# Altium footprint library pathfinder_pcb.PcbLib: 35 footprints (part 1 of 3)
Each footprint in its own frame and in the unit in brackets; x right, y up, seen from the top. Pads: shape width x height; smd on the part's side, far side on the other; paste and mask are expansions set on the pad; w line width, h text height; cw(c..) or ccw(c..) is an arc to the next point about the centre after c.
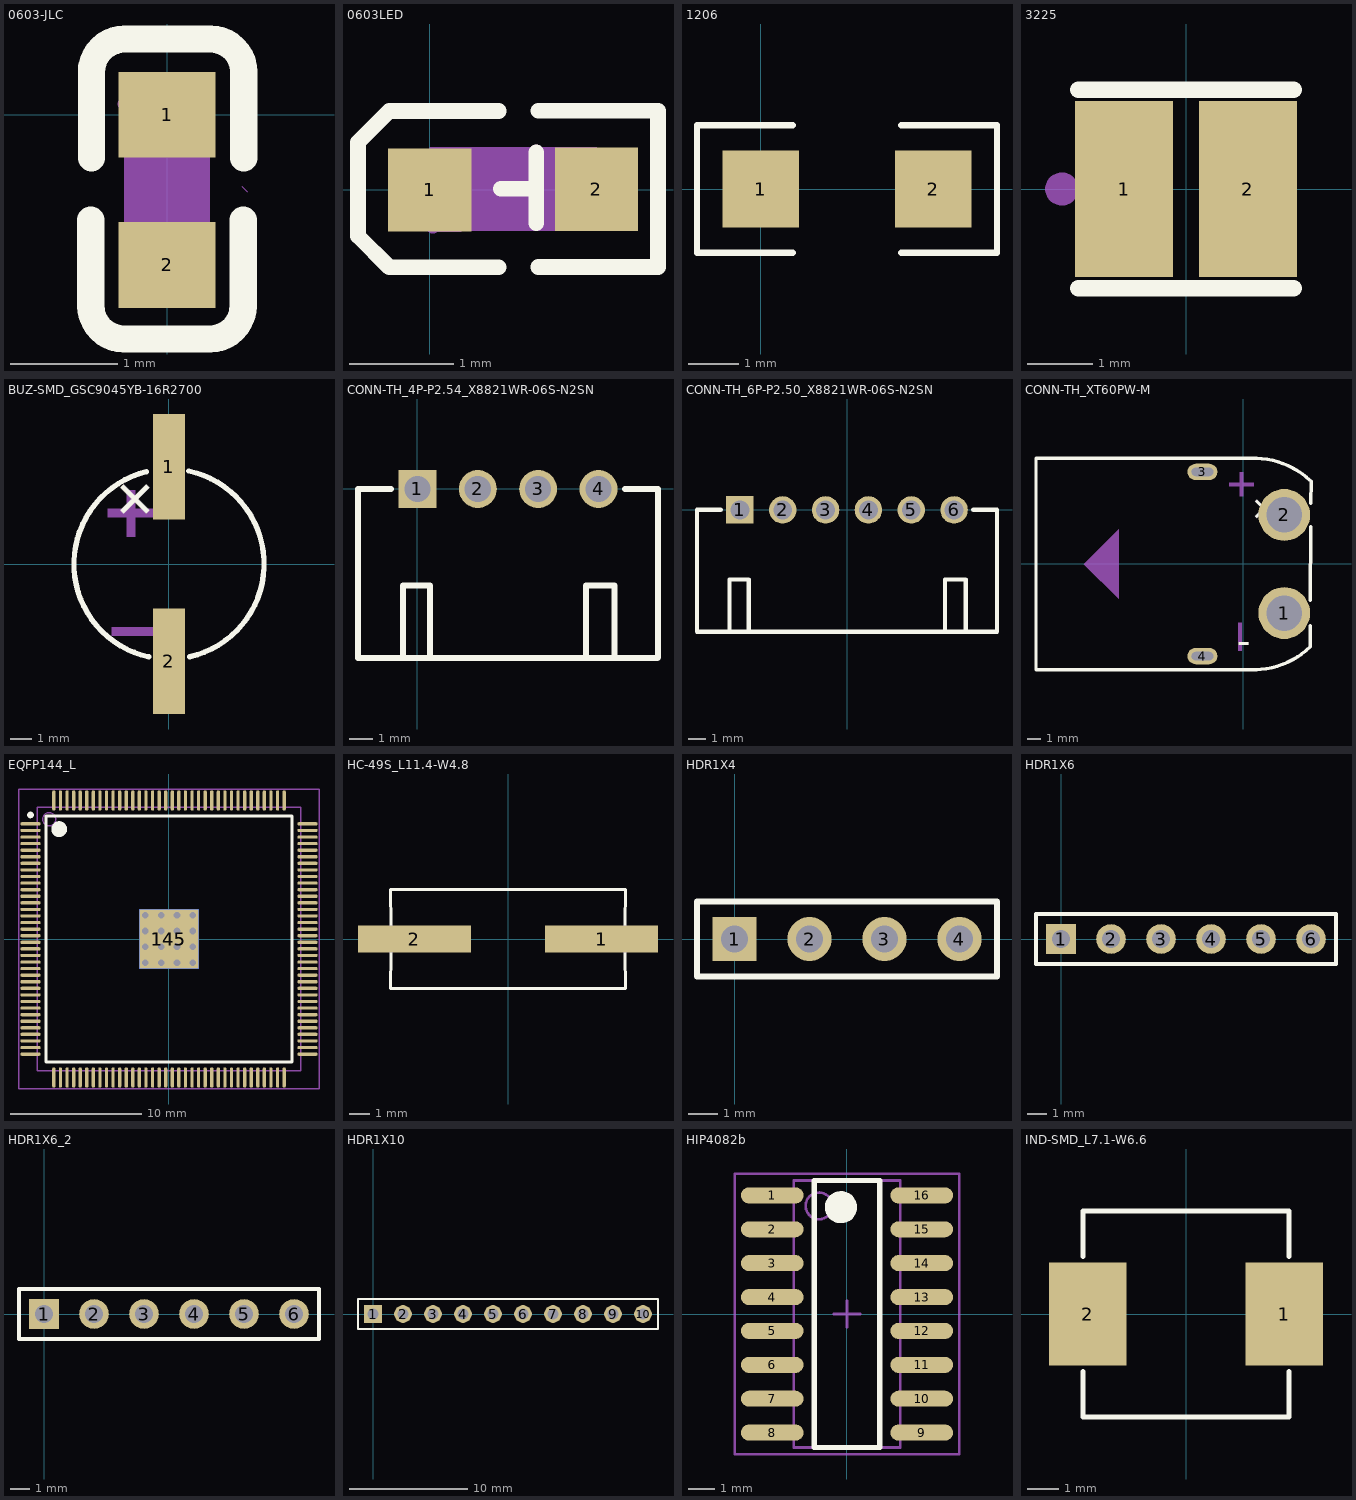
[diagram p0: the footprints below, top view; thin cyan lines are the x and y axes]

## 0603-JLC [mm]
pads (2):
  rect 0.9x0.8 smd: 1(0,0) 2(0,-1.4)
Top Overlay:
  lines w0.254: -0.71,-0.98 -0.71,-1.78 ccw(c-0.4,-1.78) -0.4,-2.09 0.4,-2.09 ccw(c0.4,-1.78) 0.71,-1.78 0.71,-0.98 ; -0.704,-0.404 -0.704,0.396 cw(c-0.394,0.396) -0.394,0.706 0.406,0.706 cw(c0.406,0.396) 0.715,0.396 0.715,-0.404
Top Paste:
  region: -0.138,-0.385 0.138,-0.385 0.432,0.018 0.432,0.314 0.368,0.378 -0.368,0.378 -0.432,0.314 -0.432,0.018
  region: -0.138,-1.015 0.138,-1.015 0.432,-1.418 0.432,-1.714 0.368,-1.778 -0.368,-1.778 -0.432,-1.714 -0.432,-1.418
Mechanical 4:
  region: -0.4,0.1 0.4,0.1 0.4,-1.5 -0.4,-1.5
Mechanical 5:
  region: -0.4,-1.5 0.4,-1.5 0.4,-1.2 -0.4,-1.2
  region: -0.4,0.1 0.4,0.1 0.4,-0.2 -0.4,-0.2
Mechanical 6:
  circle w0.06: c-0.4,0.1 r0.03
Mechanical 15:
  lines w0.003: 0.696,-0.667 0.747,-0.718

## 0603LED [mm]
pads (2):
  rect 0.8x0.8 smd: 1(0,0) 2(1.599,0.007)
Top Overlay:
  lines w0.15: 0.66,-0.742 -0.39,-0.742 -0.69,-0.442 -0.69,-0.342 -0.69,0.358 -0.69,0.458 -0.39,0.758 0.66,0.758 ; 0.68,0.01 1.02,0.01 ; 1.02,-0.32 1.02,0.36 ; 1.04,-0.74 2.19,-0.74 ; 1.04,0.76 2.19,0.76 2.19,-0.72
Mechanical 4:
  region: 0,-0.39 0,0.41 1.6,0.41 1.6,-0.39
Mechanical 5:
  region: 0,-0.4 0,0.4 0.3,0.4 0.3,-0.4
  region: 1.3,-0.393 1.3,0.407 1.6,0.407 1.6,-0.393
Mechanical 6:
  circle w0.06: c0.029,-0.36 r0.03
Mechanical 15:
  region: -0.271,0.065 0.269,0.065 0.269,-0.065 -0.271,-0.065
  region: 1.534,-0.264 1.534,0.276 1.664,0.276 1.664,-0.264
  region: 1.328,0.072 1.868,0.072 1.868,-0.058 1.328,-0.058
  lines w0.15: 0.679,0.013 1.019,0.013 ; 1.02,-0.32 1.02,0.36

## 1206 [mil]
height 62.99
pads (2):
  rect 60x60 smd: 1(0,0) 2(135,0)
Top Overlay:
  lines w5: 25,-50 -50,-50 -50,50 25,50 ; 110,-50 185,-50 185,50 110,50

## 3225 [mm]
pads (2):
  rect 1.5x2.7 smd: 1(-0.95,0) 2(0.95,0)
Top Overlay:
  lines w0.254: -1.651,-1.524 1.651,-1.524 ; -1.651,1.524 1.651,1.524
Mechanical 15:
  circle w0.254: c-1.905,0 r0.127

## BUZ-SMD_GSC9045YB-16R2700 [mm]
pads (2):
  rect 1.5x5 smd: 1(0,4.6) 2(0,-4.6)
Top Overlay:
  lines w0.254: -1.066,4.372 ccw(c0,0) -0.951,-4.398 ; 0.936,4.402 cw(c0,0) 0.974,-4.393
  text "+" at -1.822,1.626 h2.03
Mechanical 15:
  region: -2.901,2.207 -2.901,2.607 -0.701,2.607 -0.701,2.207
  region: -1.607,1.299 -2.007,1.299 -2.007,3.499 -1.607,3.499
  region: -2.701,-3.393 -2.701,-2.993 -0.501,-2.993 -0.501,-3.393

## CONN-TH_4P-P2.54_X8821WR-06S-N2SN [mm]
pads (4):
  rect 1.6x1.6 hole 1.1: 1(0,0)
  round 1.6 hole 1.1: 2(2.54,0) 3(5.08,0) 4(7.62,0)
Top Overlay:
  lines w0.254: -1.116,0 -2.5,0 -2.5,-7.112 -0.608,-7.112 ; 0.522,-7.112 0.522,-4.064 -0.608,-4.064 -0.608,-7.112 ; 7.088,-7.112 7.088,-4.064 8.294,-4.064 8.294,-7.112 ; 8.739,0 10.123,0 10.123,-6.629 10.123,-7.098 10.109,-7.112 -0.608,-7.112

## CONN-TH_6P-P2.50_X8821WR-06S-N2SN [mm]
pads (6):
  rect 1.6x1.6 hole 1.1: 1(-6.25,0)
  round 1.6 hole 1.1: 2(-3.75,0) 3(-1.25,0) 4(1.25,0) 5(3.75,0) 6(6.25,0)
Top Overlay:
  lines w0.254: -7.366,0 -8.75,0 -8.75,-7.112 8.75,-7.112 8.75,0 7.366,0 ; -6.858,-7.112 -6.858,-4.064 -5.728,-4.064 -5.728,-7.112 ; 5.715,-7.112 5.715,-4.064 6.921,-4.064 6.921,-7.112

## CONN-TH_XT60PW-M [mm]
pads (4):
  round 3.8 hole 2.6: 1(3,-3.6) 2(3,3.6)
  oval 2.2x1.2 hole 0.6 slot 1.6 at 0 deg: 3(-3,6.75) 4(-3,-6.75)
Top Overlay:
  lines w0.254: 0.889,-7.747 ccw(c0.746,-1.749) 4.917,-6.062 ; 0.937,7.747 cw(c0.794,1.749) 4.965,6.062 4.956,4.441 ; 1,-7.75 -15.2,-7.75 -15.2,7.75 1,7.75 ; 4.902,-5.994 4.909,-4.544 ; 4.919,-2.676 4.947,2.738
  text "-" at 0.556,-5.08 h2.03
  text "+" at 0.092,4.235 h2.03
Mechanical 15:
  region: -9.144,2.54 -9.144,-2.54 -11.684,0
  region: -0.254,6.731 0,6.731 0,5.969 0.762,5.969 0.762,5.715 0,5.715 0,4.953 -0.254,4.953 -0.254,5.715 -1.016,5.715 -1.016,5.969 -0.254,5.969
  region: -0.381,-4.318 -0.127,-4.318 -0.127,-6.35 -0.381,-6.35

## EQFP144_L [mm] "Thin QFP, 144-Leads, Body 20x20mm, Pitch 0.5mm, IPC High Density"
height 1.6
pads (146):
  oval 1.55x0.25 smd: 1(-10.525,8.75) 2(-10.525,8.25) 3(-10.525,7.75) 4(-10.525,7.25) 5(-10.525,6.75) 6(-10.525,6.25) 7(-10.525,5.75) 8(-10.525,5.25) 9(-10.525,4.75) 10(-10.525,4.25) 11(-10.525,3.75) 12(-10.525,3.25) 13(-10.525,2.75) 14(-10.525,2.25) 15(-10.525,1.75) 16(-10.525,1.25) 17(-10.525,0.75) 18(-10.525,0.25) 19(-10.525,-0.25) 20(-10.525,-0.75) 21(-10.525,-1.25) 22(-10.525,-1.75) 23(-10.525,-2.25) 24(-10.525,-2.75) 25(-10.525,-3.25) 26(-10.525,-3.75) 27(-10.525,-4.25) 28(-10.525,-4.75) 29(-10.525,-5.25) 30(-10.525,-5.75) 31(-10.525,-6.25) 32(-10.525,-6.75) 33(-10.525,-7.25) 34(-10.525,-7.75) 35(-10.525,-8.25) 36(-10.525,-8.75) 73(10.525,-8.75) 74(10.525,-8.25) 75(10.525,-7.75) 76(10.525,-7.25) 77(10.525,-6.75) 78(10.525,-6.25) 79(10.525,-5.75) 80(10.525,-5.25) 81(10.525,-4.75) 82(10.525,-4.25) 83(10.525,-3.75) 84(10.525,-3.25) 85(10.525,-2.75) 86(10.525,-2.25) 87(10.525,-1.75) 88(10.525,-1.25) 89(10.525,-0.75) 90(10.525,-0.25) 91(10.525,0.25) 92(10.525,0.75) 93(10.525,1.25) 94(10.525,1.75) 95(10.525,2.25) 96(10.525,2.75) 97(10.525,3.25) 98(10.525,3.75) 99(10.525,4.25) 100(10.525,4.75) 101(10.525,5.25) 102(10.525,5.75) 103(10.525,6.25) 104(10.525,6.75) 105(10.525,7.25) 106(10.525,7.75) 107(10.525,8.25) 108(10.525,8.75)
  oval 0.25x1.55 smd: 37(-8.75,-10.525) 38(-8.25,-10.525) 39(-7.75,-10.525) 40(-7.25,-10.525) 41(-6.75,-10.525) 42(-6.25,-10.525) 43(-5.75,-10.525) 44(-5.25,-10.525) 45(-4.75,-10.525) 46(-4.25,-10.525) 47(-3.75,-10.525) 48(-3.25,-10.525) 49(-2.75,-10.525) 50(-2.25,-10.525) 51(-1.75,-10.525) 52(-1.25,-10.525) 53(-0.75,-10.525) 54(-0.25,-10.525) 55(0.25,-10.525) 56(0.75,-10.525) 57(1.25,-10.525) 58(1.75,-10.525) 59(2.25,-10.525) 60(2.75,-10.525) 61(3.25,-10.525) 62(3.75,-10.525) 63(4.25,-10.525) 64(4.75,-10.525) 65(5.25,-10.525) 66(5.75,-10.525) 67(6.25,-10.525) 68(6.75,-10.525) 69(7.25,-10.525) 70(7.75,-10.525) 71(8.25,-10.525) 72(8.75,-10.525) 109(8.75,10.525) 110(8.25,10.525) 111(7.75,10.525) 112(7.25,10.525) 113(6.75,10.525) 114(6.25,10.525) 115(5.75,10.525) 116(5.25,10.525) 117(4.75,10.525) 118(4.25,10.525) 119(3.75,10.525) 120(3.25,10.525) 121(2.75,10.525) 122(2.25,10.525) 123(1.75,10.525) 124(1.25,10.525) 125(0.75,10.525) 126(0.25,10.525) 127(-0.25,10.525) 128(-0.75,10.525) 129(-1.25,10.525) 130(-1.75,10.525) 131(-2.25,10.525) 132(-2.75,10.525) 133(-3.25,10.525) 134(-3.75,10.525) 135(-4.25,10.525) 136(-4.75,10.525) 137(-5.25,10.525) 138(-5.75,10.525) 139(-6.25,10.525) 140(-6.75,10.525) 141(-7.25,10.525) 142(-7.75,10.525) 143(-8.25,10.525) 144(-8.75,10.525)
  rect 4.5x4.5 smd: 145(0,0)
  rect 4.5x4.5 smd far side: 145(0,0)
via -1.79,-1.79 diameter 0.8 hole 0.5
via -1.79,-0.59 diameter 0.8 hole 0.5
via -0.59,-1.79 diameter 0.8 hole 0.5
via 0.61,-1.79 diameter 0.8 hole 0.5
via -0.59,-0.59 diameter 0.8 hole 0.5
via 0.61,-0.59 diameter 0.8 hole 0.5
via 1.81,-1.79 diameter 0.8 hole 0.5
via 1.81,-0.59 diameter 0.8 hole 0.5
via -1.79,0.61 diameter 0.8 hole 0.5
via -0.59,0.61 diameter 0.8 hole 0.5
via -1.79,1.81 diameter 0.8 hole 0.5
via -0.59,1.81 diameter 0.8 hole 0.5
via 0.61,0.61 diameter 0.8 hole 0.5
via 1.81,0.61 diameter 0.8 hole 0.5
via 0.61,1.81 diameter 0.8 hole 0.5
via 1.81,1.81 diameter 0.8 hole 0.5
Top Overlay:
  circle w0.25: c-10.525,9.425 r0.125
  circle w0.6: c-8.35,8.35 r0.3
  lines w0.2: -9.35,-9.35 -9.35,9.35 9.35,9.35 9.35,-9.35 -9.35,-9.35
Mechanical 13:
  circle w0.1: c-9.1,9.1 r0.5
  lines w0.1: -10,-10 -10,10 10,10 10,-10 -10,-10
Mechanical 15:
  lines w0.1: -0.5,-0.025 0.5,-0.025 ; 0,-0.525 0,0.475 ; -11.4,-11.4 -11.4,11.4 11.4,11.4 11.4,-11.4 -11.4,-11.4

## HC-49S_L11.4-W4.8 [mm]
pads (2):
  rect 5.5x1.3 smd: 1(4.553,0) 2(-4.553,0)
Top Overlay:
  lines w0.152: -5.715,-2.413 5.715,-2.413 ; -5.715,-2.413 -5.7,-0.662 -5.715,-2.413 ; -5.715,-2.413 5.715,-2.413 ; -5.715,2.413 -5.7,0.662 -5.715,2.413 ; -5.715,2.413 5.715,2.413 ; -5.715,2.413 5.715,2.413 ; 5.715,-2.413 5.7,-0.662 5.715,-2.413 ; 5.715,2.413 5.7,0.662 5.715,2.413

## HDR1X4 [mm] "Connector; Header; 4 Position"
pads (4):
  rect 1.5x1.5 hole 0.9: 1(0,0)
  round 1.5 hole 0.9: 2(2.54,0) 3(5.08,0) 4(7.62,0)
Top Overlay:
  lines w0.2: -1.27,-1.27 -1.27,1.27 8.89,1.27 8.89,-1.27 -1.27,-1.27

## HDR1X6 [mm] "Connector; Header; 6 Position"
pads (6):
  rect 1.5x1.5 hole 0.9: 1(0,0)
  round 1.5 hole 0.9: 2(2.54,0) 3(5.08,0) 4(7.62,0) 5(10.16,0) 6(12.7,0)
Top Overlay:
  lines w0.2: -1.27,-1.27 13.97,-1.27 13.97,1.27 -1.27,1.27 -1.27,-1.27

## HDR1X6_2 [mm]
pads (6):
  rect 1.5x1.5 hole 0.9: 1(0,0)
  round 1.5 hole 0.9: 2(2.54,0) 3(5.08,0) 4(7.62,0) 5(10.16,0) 6(12.7,0)
Top Overlay:
  lines w0.2: -1.27,-1.27 -1.27,1.27 13.97,1.27 13.97,-1.27 -1.27,-1.27

## HDR1X10 [mm] "Connector; Header; 10 Position"
pads (10):
  rect 1.5x1.5 hole 0.9: 1(0,0)
  round 1.5 hole 0.9: 2(2.54,0) 3(5.08,0) 4(7.62,0) 5(10.16,0) 6(12.7,0) 7(15.24,0) 8(17.78,0) 9(20.32,0) 10(22.86,0)
Top Overlay:
  lines w0.2: -1.27,-1.27 -1.27,1.27 0.635,1.27 24.13,1.27 24.13,-1.27 -1.27,-1.27

## HIP4082b [mm]
height 7.87
pads (16):
  oval 2.35x0.6 smd: 1(-2.8,4.445) 2(-2.8,3.175) 3(-2.8,1.905) 4(-2.8,0.635) 5(-2.8,-0.635) 6(-2.8,-1.905) 7(-2.8,-3.175) 8(-2.8,-4.445) 9(2.8,-4.445) 10(2.8,-3.175) 11(2.8,-1.905) 12(2.8,-0.635) 13(2.8,0.635) 14(2.8,1.905) 15(2.8,3.175) 16(2.8,4.445)
Top Overlay:
  circle w0.6: c-0.225,4 r0.3
  lines w0.2: -1.225,-5 1.225,-5 1.225,5 -1.225,5 -1.225,-5
Mechanical 13:
  circle w0.1: c-1.05,4.05 r0.5
  lines w0.1: -2,-5 2,-5 2,5 -2,5 -2,-5
Mechanical 15:
  lines w0.1: -0.5,0 0.5,0 ; 0,-0.5 0,0.5 ; -4.2,-5.25 4.2,-5.25 4.2,5.25 -4.2,5.25 -4.2,-5.25

## IND-SMD_L7.1-W6.6 [mm]
pads (2):
  rect 2.474x3.32 smd: 1(3.153,0) 2(-3.153,0)
Top Overlay:
  lines w0.152: -3.302,-1.84 -3.302,-3.302 3.302,-3.302 3.302,-1.84 ; -3.302,1.84 -3.302,3.302 3.302,3.302 3.302,1.84